# EAGLE library part MAPLE-SHIELD (library X893)
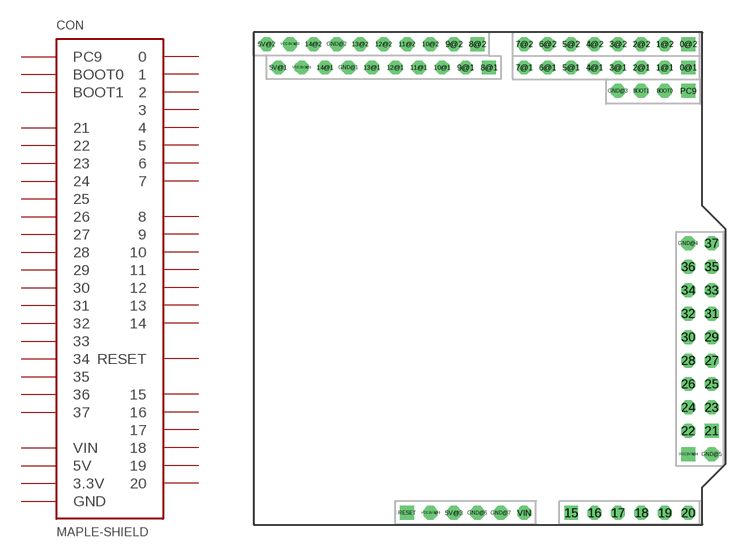
[diagram p138: symbol with the pads of MAPLE-SHIELD; footprint MAPLE-SHIELD]

Designator prefix CON

## MAPLE-SHIELD  [MAPLE-SHIELD]
0@1  0
1@1  1
2@1  2
3@1  3
4@1  4
5@1  5
5V@1  5V  pwr
5V@2  5V  pwr
5V@3  5V  pwr
6@1  6
7@1  7
8@1  8
9@1  9
10@1  10
11@1  11
12@1  12
13@1  13
14@1  14
15  15
16  16
17  17
18  18
19  19
20  20
21  21
22  22
23  23
24  24
25  25
26  26
27  27
28  28
29  29
30  30
31  31
32  32
33  33
34  34
35  35
36  36
37  37
BOOT0  BOOT0
BOOT1  BOOT1
GND@1  GND  pwr
GND@2  GND  pwr
GND@3  GND  pwr
GND@4  GND  pwr
GND@5  GND  pwr
GND@6  GND  pwr
GND@7  GND  pwr
PC9  PC9
RESET  RESET
VCC3V3@1  3.3V  pwr
VCC3V3@2  3.3V  pwr
VCC3V3@3  3.3V  pwr
VCC3V3@4  3.3V  pwr
VIN  VIN  pwr

## Footprint MAPLE-SHIELD (pad centres in mm)
drill 1 pad 1.5 square: 0@1 47.117,49.784; 0@2 47.117,52.324; 8@1 25.527,49.784; 8@2 24.257,52.324; 15 34.417,1.524; 21 49.657,10.414; PC9 47.117,47.244; RESET 16.637,1.524; VCC3V3@4 47.117,7.874
drill 1 pad 1.5 octagon: 1@1 44.577,49.784; 1@2 44.577,52.324; 2@1 42.037,49.784; 2@2 42.037,52.324; 3@1 39.497,49.784; 3@2 39.497,52.324; 4@1 36.957,49.784; 4@2 36.957,52.324; 5@1 34.417,49.784; 5@2 34.417,52.324; 5V@1 2.667,49.784; 5V@2 1.397,52.324; 5V@3 21.717,1.524; 6@1 31.877,49.784; 6@2 31.877,52.324; 7@1 29.337,49.784; 7@2 29.337,52.324; 9@1 22.987,49.784; 9@2 21.717,52.324; 10@1 20.447,49.784; 10@2 19.177,52.324; 11@1 17.907,49.784; 11@2 16.637,52.324; 12@1 15.367,49.784; 12@2 14.097,52.324; 13@1 12.827,49.784; 13@2 11.557,52.324; 14@1 7.747,49.784; 14@2 6.477,52.324; 16 36.957,1.524; 17 39.497,1.524; 18 42.037,1.524; 19 44.577,1.524; 20 47.117,1.524; 22 47.117,10.414; 23 49.657,12.954; 24 47.117,12.954; 25 49.657,15.494; 26 47.117,15.494; 27 49.657,18.034; 28 47.117,18.034; 29 49.657,20.574; 30 47.117,20.574; 31 49.657,23.114; 32 47.117,23.114; 33 49.657,25.654; 34 47.117,25.654; 35 49.657,28.194; 36 47.117,28.194; 37 49.657,30.734; BOOT0 44.577,47.244; BOOT1 42.037,47.244; GND@1 10.287,49.784; GND@2 9.017,52.324; GND@3 39.497,47.244; GND@4 47.117,30.734; GND@5 49.657,7.874; GND@6 24.257,1.524; GND@7 26.797,1.524; VCC3V3@1 5.207,49.784; VCC3V3@2 3.937,52.324; VCC3V3@3 19.177,1.524; VIN 29.337,1.524